# Altium schematic symbol library 74AHC1G08.SchLib: 1 symbol
Pins are listed as number, name and electrical type; pins without a type are passive.

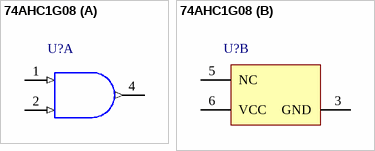
[diagram p0: symbol 74AHC1G08]

## 74AHC1G08
designator U?
footprint TSOP65P210X110-6N (TSOP, 6-Leads, Body 2.05x1.25mm, Pitch 0.65mm, IPC Medium Density)
part A pins: 1 A (in) "Input A", 2 B (in) "Input B", 4 Y (out) "Output Y"
part B pins: 3 GND (power) "Ground", 5 NC "No internal connection", 6 VCC (power) "Power Pin"